# Altium footprint library PDIP28.PcbLib: 1 footprints
Each footprint in its own frame and in the unit in brackets; x right, y up, seen from the top. Pads: shape width x height; smd on the part's side, far side on the other; paste and mask are expansions set on the pad; w line width, h text height; cw(c..) or ccw(c..) is an arc to the next point about the centre after c.
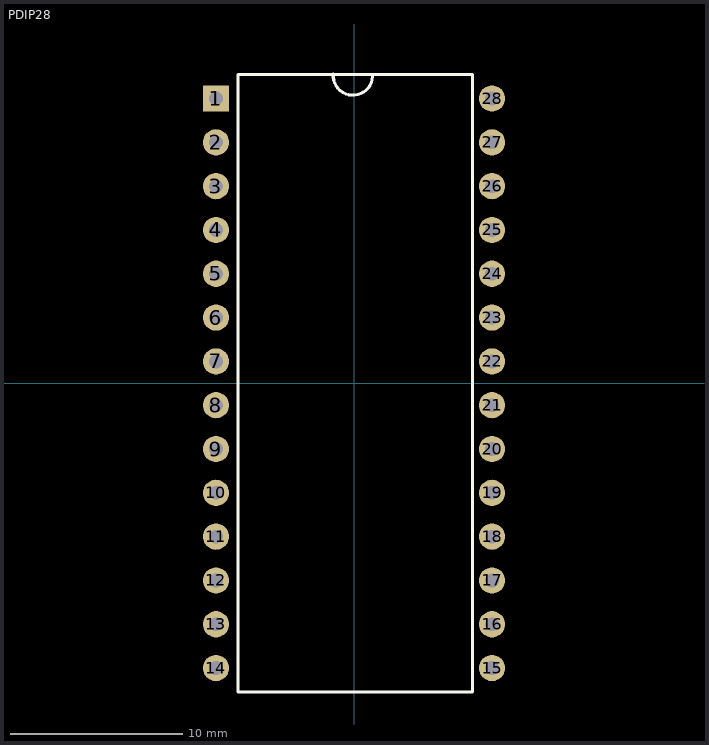
[diagram p0: the footprint, top view; thin cyan lines are the x and y axes]

## PDIP28 [mil]
pads (28):
  rect 60x60 hole 31.5: 1(-315,650)
  round 60 hole 31.5: 2(-315,550) 3(-315,450) 4(-315,350) 5(-315,250) 6(-315,150) 7(-315,50) 8(-315,-50) 9(-315,-150) 10(-315,-250) 11(-315,-350) 12(-315,-450) 13(-315,-550) 14(-315,-650) 15(315,-650) 16(315,-550) 17(315,-450) 18(315,-350) 19(315,-250) 20(315,-150) 21(315,-50) 22(315,50) 23(315,150) 24(315,250) 25(315,350) 26(315,450) 27(315,550) 28(315,650)
Top Overlay:
  lines w7: -47.37,705.95 ccw(c-2.5,702.5) 42.45,700.36 ; -265,-705 -265,705 -120,705 110,705 270,705 270,-705 -265,-705
3D body "DIP-28.step": height 183.46, standoff -129.13, extent -305,-708.86 309.96,708.86